# EAGLE library part CD4053BE (library CD4053BE)
TEXAS INSTRUMENTS - CD4053BE . - 2:1 Analog Multiplexer/Demultiplexer IC, 3 Circuits, 240 ohm, 3V to 20V, DIP-16 Source: Datasheet <https://www.ti.com/lit/ds/symlink/cd4053b.pdf?ts=1623146784152&ref_url=https%3A%2F%2Fwww.ti.com%2Fstore%2Fti%2Fen%2Fp%2Fproduct%2F%3Fp%3DCD4053BE>
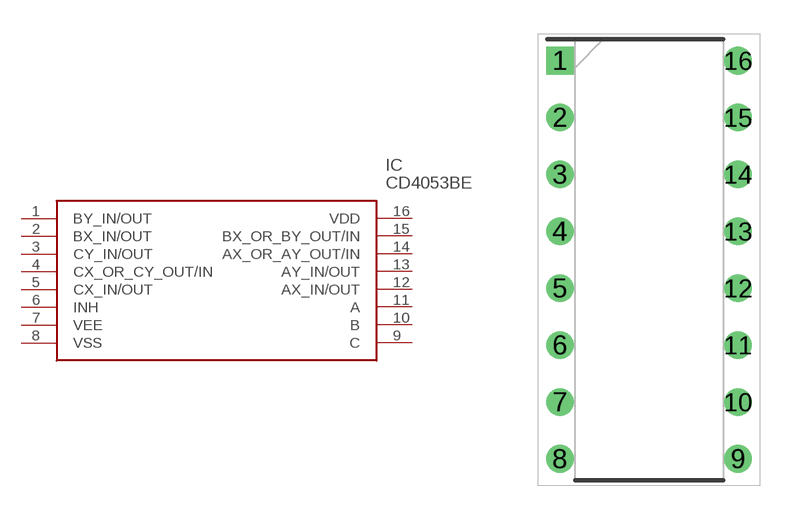
[diagram p0: symbol with the pads of DIP794W53P254L1930H508Q16N; footprint DIP794W53P254L1930H508Q16N]

Designator prefix IC

## CD4053BE (Description: TEXAS INSTRUMENTS - CD4053BE . - 2:1 Analog Multiplexer/Demultiplexer IC, 3 Circuits, 240 ohm, 3V to 20V, DIP-16; Height: 5.08mm; Manufacturer_Name: Texas Instruments; Manufacturer_Part_Number: CD4053BE; Mouser_Part_Number: 595-CD4053BE; Mouser_Price-Stock: https://www.mouser.co.uk/ProductDetail/Texas-Instruments/CD4053BE?qs=7KMwW2o1%252BmR82X8HX5IMeA%3D%3D)  [DIP794W53P254L1930H508Q16N]
1  BY_IN/OUT
2  BX_IN/OUT
3  CY_IN/OUT
4  CX_OR_CY_OUT/IN
5  CX_IN/OUT
6  INH
7  VEE
8  VSS
9  C
10  B
11  A
12  AX_IN/OUT
13  AY_IN/OUT
14  AX_OR_AY_OUT/IN
15  BX_OR_BY_OUT/IN
16  VDD

## Footprint DIP794W53P254L1930H508Q16N (pad centres in mm)
N (R-PDIP-T16)
drill 0.73 pad 1.13 square: 1 -3.97,8.89
drill 0.73 pad 1.13: 2 -3.97,6.35; 3 -3.97,3.81; 4 -3.97,1.27; 5 -3.97,-1.27; 6 -3.97,-3.81; 7 -3.97,-6.35; 8 -3.97,-8.89; 9 3.97,-8.89; 10 3.97,-6.35; 11 3.97,-3.81; 12 3.97,-1.27; 13 3.97,1.27; 14 3.97,3.81; 15 3.97,6.35; 16 3.97,8.89